# Altium schematic symbol library 固定柱.SchLib: 4 symbols
Pins are listed as number, name and electrical type; pins without a type are passive.

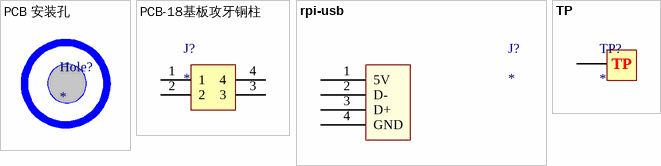
[diagram p0: symbols PCB 安装孔 to TP]

## PCB 安装孔
designator Hole?
footprint M2.5x5.4mm

## PCB-18基板攻牙铜柱
designator J?
footprint PCB-18基板攻牙铜柱
pins: 1, 2, 3, 4

## rpi-usb
designator J?
footprint RPIZERO-USB
pins: 1 5V (power), 2 D- (power), 3 D+ (power), 4 GND (power)

## TP
designator TP?
测试点
footprint TP (1mm)
pins: 1